# Altium schematic symbol library Photointerrupters.SchLib: 3 symbols
Pins are listed as number, name and electrical type; pins without a type are passive.

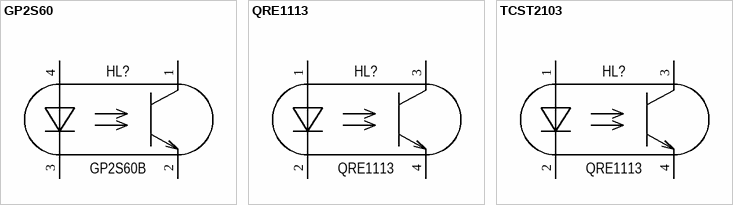
[diagram p0: symbols GP2S60 to TCST2103]

## GP2S60
designator HL?, comment GP2S60B
Photointerrupter Reflective; Manufacturer: Sharp Microelectronics; Group: Optical Sensors - Reflective; Part name: GP2S60B; Package: GP2S60
footprint GP2S60 (Compact Reflective  Photointerrupter, Body 3.2x1.7mm)
pins: 1 Collector "Cathode", 2 Emitter "Cathode", 3 Cathode, 4 Anode

## QRE1113
designator HL?
Photointerrupter Reflective; Manufacturer: Fairchild Semiconductor; Group: Optical Sensors - Reflective; Part name: QRE1113; Package: QRE1113
footprint QRE1113 (Compact Reflective  Photointerrupter, Body 3.4x2.8mm)
pins: 1 Anode, 2 Cathode, 3 Collector "Cathode", 4 Emitter "Cathode"

## TCST2103
designator HL?, comment QRE1113
Photointerrupter Barrier; Manufacturer: Fairchild Semiconductor; Group: Optical Sensors - Reflective; Part name: QRE1113; Package: QRE1113
footprint 214A67
pins: 1 Anode, 2 Cathode, 3 Collector "Cathode", 4 Emitter "Cathode"